# Altium schematic symbol library SN74LVC1G99DCUR.SchLib: 1 symbol
Pins are listed as number, name and electrical type; pins without a type are passive.

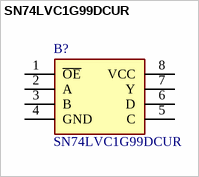
[diagram p0: symbol SN74LVC1G99DCUR]

## SN74LVC1G99DCUR
designator B?
Ultra-Configurable Multi-Function Gate With 3-State Outputs; Manufacturer_Name: Texas Instruments; Geometry.Height: 0.9mm; Mouser Part Number: 595-SN74LVC1G99DCUR; Mouser Price/Stock: https://www.mouser.co.uk/ProductDetail/Texas-Instruments/SN74LVC1G99DCUR?qs=nqigI8dpoHJeqYrZLBAGug%3D%3D; Manufacturer_Part_Number: SN74LVC1G99DCUR; Datasheet Link: http://www.ti.com/lit/gpn/sn74lvc1g99
footprint SOP50P310X90-8N
pins: 1 ~{OE}, 2 A, 3 B, 4 GND, 5 C, 6 D, 7 Y, 8 VCC